# Altium footprint library Coaxial Connectors (RF).PcbLib: 1 footprints
Each footprint in its own frame and in the unit in brackets; x right, y up, seen from the top. Pads: shape width x height; smd on the part's side, far side on the other; paste and mask are expansions set on the pad; w line width, h text height; cw(c..) or ccw(c..) is an arc to the next point about the centre after c.
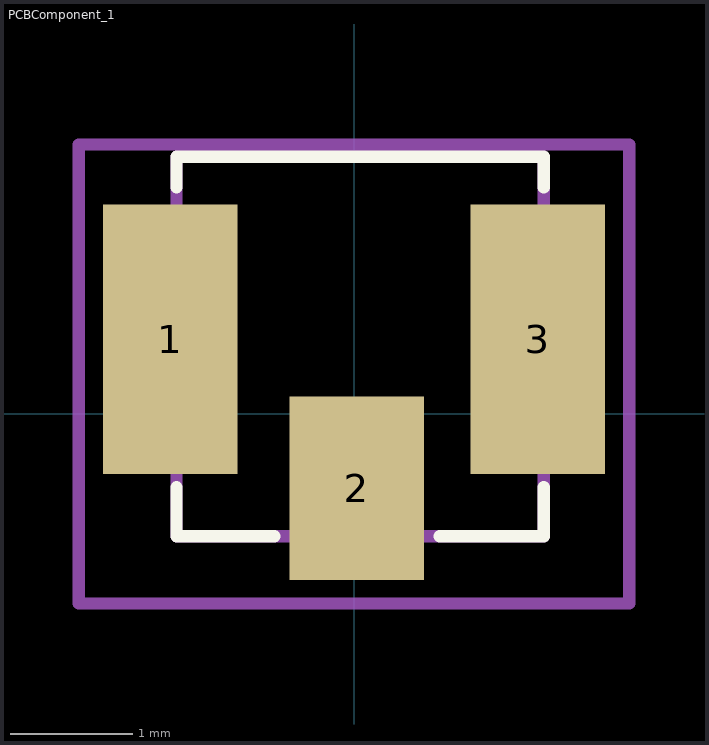
[diagram p0: the footprint, top view; thin cyan lines are the x and y axes]

## PCBComponent_1 [mm]
pads (3):
  rect 1.1x2.2 smd: 1(-1.5,0.61) 3(1.5,0.61)
  rect 1.1x1.5 smd: 2(0.024,-0.61)
Top Overlay:
  lines w0.1: -1.45,-0.6 -1.45,-1 -0.65,-1 ; -1.45,1.85 -1.45,2.1 1.55,2.1 1.55,1.85 ; 0.7,-1 1.55,-1 1.55,-0.6
Top 3D Body:
  lines w0.1: -1.45,-1 -1.45,2.1 1.55,2.1 1.55,-1 -1.45,-1
Top Component Center:
  lines w0.1: -2.25,-1.55 -2.25,2.2 2.25,2.2 2.25,-1.55 -2.25,-1.55
Top Designator:
  lines w0.1: -2.25,-1.55 -2.25,2.2 2.25,2.2 2.25,-1.55 -2.25,-1.55
3D body "U.FL-R-SMT(10)--3DModel-STEP-56544.STEP": height 1.25, standoff 0, extent -1.45,-1 1.55,2.1